# EAGLE library part GUMSTIXCON (library imported-parts)
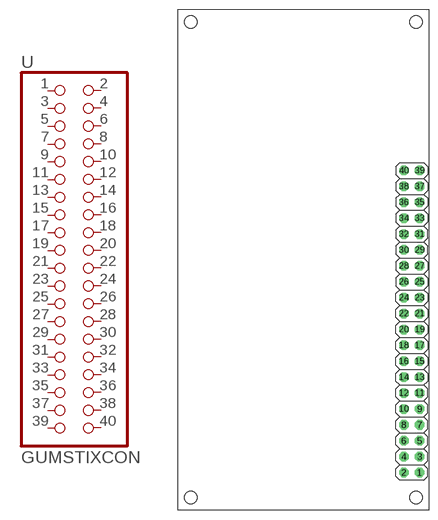
[diagram p7: symbol with the pads of GUMSTIXCON; footprint GUMSTIXCON]

Designator prefix -

## GUMSTIXCON  [GUMSTIXCON]
1  1  pas
2  2  pas
3  3  pas
4  4  pas
5  5  pas
6  6  pas
7  7  pas
8  8  pas
9  9  pas
10  10  pas
11  11  pas
12  12  pas
13  13  pas
14  14  pas
15  15  pas
16  16  pas
17  17  pas
18  18  pas
19  19  pas
20  20  pas
21  21  pas
22  22  pas
23  23  pas
24  24  pas
25  25  pas
26  26  pas
27  27  pas
28  28  pas
29  29  pas
30  30  pas
31  31  pas
32  32  pas
33  33  pas
34  34  pas
35  35  pas
36  36  pas
37  37  pas
38  38  pas
39  39  pas
40  40  pas

## Footprint GUMSTIXCON (pad centres in mm)
drill 1.016 octagon: 1 18.596,-23.998; 2 16.056,-23.998; 3 18.596,-21.459; 4 16.056,-21.459; 5 18.596,-18.919; 6 16.056,-18.919; 7 18.596,-16.378; 8 16.056,-16.378; 9 18.596,-13.838; 10 16.056,-13.838; 11 18.596,-11.299; 12 16.056,-11.299; 13 18.596,-8.758; 14 16.056,-8.758; 15 18.596,-6.218; 16 16.056,-6.218; 17 18.596,-3.679; 18 16.056,-3.679; 19 18.596,-1.139; 20 16.056,-1.139; 21 18.596,1.401; 22 16.056,1.401; 23 18.596,3.942; 24 16.056,3.942; 25 18.596,6.481; 26 16.056,6.481; 27 18.596,9.021; 28 16.056,9.021; 29 18.596,11.562; 30 16.056,11.562; 31 18.596,14.101; 32 16.056,14.101; 33 18.596,16.642; 34 16.056,16.642; 35 18.596,19.181; 36 16.056,19.181; 37 18.596,21.721; 38 16.056,21.721; 39 18.596,24.262; 40 16.056,24.262
hole 2 at 17.999,-28.001
hole 2 at -18.001,-28.001
hole 2 at -18.001,47.999
hole 2 at 17.999,47.999